# Altium schematic symbol library kmilo17pet-TI_StepDown.SchLib: 565 symbols (part 1 of 33)
Pins are listed as number, name and electrical type; pins without a type are passive.

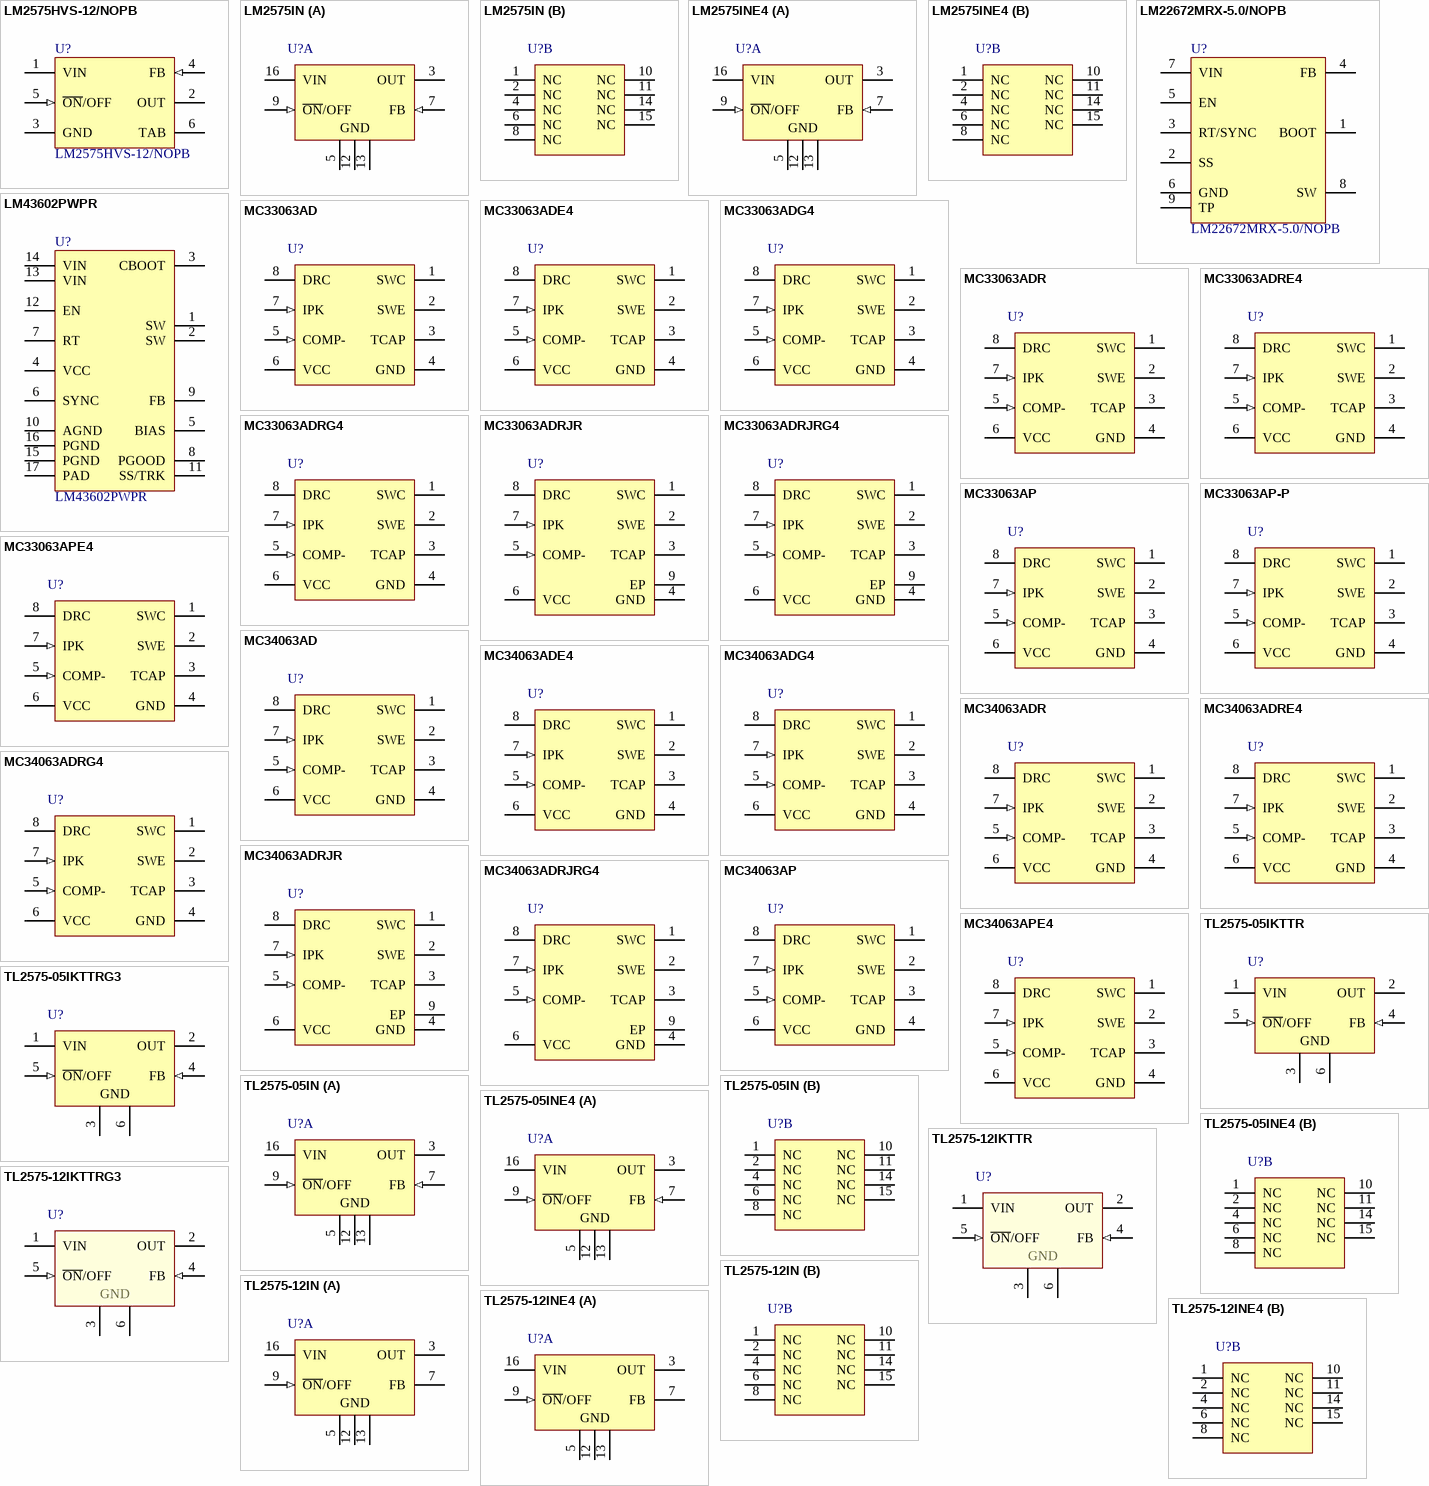
[diagram p0: symbols LM2575HVS-12/NOPB to TL2575-12INE4]

## LM2575HVS-12/NOPB
designator U?
TEXAS INSTRUMENTS         LM2575HVS-12/NOPB             Buck (Step Down) Switching Regulator, Fixed, 4V-60V In, 12V And 1A Out, TO-263-5; Manufacturer: TI National Semiconductor; Number of Outputs: 1; Switching Frequency: 58kHz; Quiescent Current: 10mA; Max Input Voltage: 60V; Efficiency: 88%; Min Input Voltage: 4V; Max Output Voltage: 57V; Min Output Voltage: 1.23V; Supplier 1: Digi-Key; Manufacturer Part Number: LM2575HVS-12/NOPB; Stock 1: 740; Pricing 1: 1=5.72, 10=5.141, 100=4.212, 500=3.5856, 1000=3.024 (USD); Mount: Surface Mount; Case/Package: TO-263; Number of Pins: 5; Weight: 0.25lb; Contact Plating: Tin; Min Operating Temperature: -40°C; Max Operating Temperature: 125°C; Output Voltage: 12V; Output Current: 1A; Packaging: Rail/Tube; Max Output Current: 1A; Package Quantity: 45; Nominal Output Voltage: 12V; Operating Supply Voltage: 60V; Length: 10.67mm; Height: 4.83mm; Width: 9.65mm; Radiation Hardening: No; REACH SVHC: No SVHC; Lead Free: Contains Lead; ComponentLink1URL: https://datasheet.ciiva.com/22669/1803433-22669424.pdf; ComponentLink1Description: https://datasheet.ciiva.com/22669/1803433-22669424.pdf; ComponentLink2URL: https://datasheet.ciiva.com/26098/lm2575-n-26098134.pdf; ComponentLink2Description: https://datasheet.ciiva.com/26098/lm2575-n-26098134.pdf; ComponentLink3URL: https://datasheet.ciiva.com/3219/lm2575-n-3219898.pdf; ComponentLink3Description: https://datasheet.ciiva.com/3219/lm2575-n-3219898.pdf; ComponentLink4URL: https://datasheet.ciiva.com/15112/getdatasheetpartid-82367-15112781.pdf; ComponentLink4Description: https://datasheet.ciiva.com/15112/getdatasheetpartid-82367-15112781.pdf; ComponentLink5URL: https://datasheet.ciiva.com/41457/001013707-da-01-en-ic-reg-bu-lm2575hvs-12-nopb-to-263-5-tid-41457558.pdf; ComponentLink5Description: https://datasheet.ciiva.com/41457/001013707-da-01-en-ic-reg-bu-lm2575hvs-12-nopb-to-263-5-tid-41457558.pdf; Value: LM2575HVS-12/NOPB; Supplier Part Number 1: LM2575HVS-12/NOPB-ND
footprint DPAK170P1435X442-6N (D2-PAK, 6-Pads, Body 7.42x8.66mm (max), IPC Medium Density)
pins: 1 VIN (power), 2 OUT (power), 3 GND (power), 4 FB (in), 5 ~{ON}/OFF (in), 6 TAB (power)

## LM2575IN
designator U?
Buck Adjustable Regulator with 4.75 to 40 V Input and 1.23 to 37 V Output, -40 to 125 degC, 16-Pin PDIP (N), Pb-Free (RoHS); Manufacturer: Texas Instruments; PartNumber: LM2575IN; Duty Cycle(Max)(%): 98; Iout(Max)(A): 1; Iq(Typ)(mA): 5; Rating: Catalog; SubFamily: Step-Down Regulator; Switch Current Limit(Typ)(A): 3; Vin(Max)(V): 40; Vin(Min)(V): 4.75; Vout(Max)(V): 37; Vout(Min)(V): 1.23; DatasheetVersion: SLVS569E; PackageVersion: revE, Dec-2002; PackageReference: N16; PackageDescription: 16-Pin Plastic Dual-In-Line Package, Row Spacing 7.62 mm, Pitch 2.54 mm; Supplier 1: Digi-Key; Supplier Part Number 1: 296-20850-5-ND; Eco-Plan: Pb-Free (RoHS); Regulated Outputs(#): 1; Topology: Buck; Mounting Technology: Through Hole; Code_JEDEC: MS-001*; ComponentLink1Description: Datasheet; ComponentLink1URL: http://www.ti.com/general/docs/lit/getliterature.tsp?genericPartNumber=LM2575&fileType=pdf; ComponentLink2Description: Package Specification; ComponentLink2URL: http://www.ti.com/litv/pdf/mpdi002c; ComponentLink3Description: URL Link1; ComponentLink3URL: Samples URL:http://www.ti.com/product/lm2575#samples
footprint N16 (DIP, 16-Leads, Row Spacing 7.62mm, Pitch 2.54mm, Body 19.3x6.4mm)
part A pins: 3 OUT (power), 5 GND (power), 7 FB (in), 9 ~{ON}/OFF (in), 12 GND (power), 13 GND (power), 16 VIN (power)
part B pins: 1 NC, 2 NC, 4 NC, 6 NC, 8 NC, 10 NC, 11 NC, 14 NC, 15 NC

## LM2575INE4
designator U?
Buck Adjustable Regulator with 4.75 to 40 V Input and 1.23 to 37 V Output, -40 to 125 degC, 16-Pin PDIP (N), Pb-Free (RoHS); Manufacturer: Texas Instruments; PartNumber: LM2575INE4; Duty Cycle(Max)(%): 98; Iout(Max)(A): 1; Iq(Typ)(mA): 5; Rating: Catalog; SubFamily: Step-Down Regulator; Switch Current Limit(Typ)(A): 3; Vin(Max)(V): 40; Vin(Min)(V): 4.75; Vout(Max)(V): 37; Vout(Min)(V): 1.23; DatasheetVersion: SLVS569E; PackageVersion: revE, Dec-2002; PackageReference: N16; PackageDescription: 16-Pin Plastic Dual-In-Line Package, Row Spacing 7.62 mm, Pitch 2.54 mm; Supplier 1: Digi-Key; Supplier Part Number 1: LM2575INE4-ND; Eco-Plan: Pb-Free (RoHS); Regulated Outputs(#): 1; Topology: Buck; Mounting Technology: Through Hole; Code_JEDEC: MS-001*; ComponentLink1Description: Datasheet; ComponentLink1URL: http://www.ti.com/general/docs/lit/getliterature.tsp?genericPartNumber=LM2575&fileType=pdf; ComponentLink2Description: Package Specification; ComponentLink2URL: http://www.ti.com/litv/pdf/mpdi002c; ComponentLink3Description: URL Link1; ComponentLink3URL: Samples URL:http://www.ti.com/product/tps54611#samples
footprint N16 (DIP, 16-Leads, Row Spacing 7.62mm, Pitch 2.54mm, Body 19.3x6.4mm)
part A pins: 3 OUT (power), 5 GND (power), 7 FB (in), 9 ~{ON}/OFF (in), 12 GND (power), 13 GND (power), 16 VIN (power)
part B pins: 1 NC, 2 NC, 4 NC, 6 NC, 8 NC, 10 NC, 11 NC, 14 NC, 15 NC

## LM22672MRX-5.0/NOPB
designator U?
IC REG BUCK 5V 1A 8PSOP; Manufacturer 1: TI National Semiconductor; Output Type: Fixed; Output Configuration: Positive; Min Supply Voltage: 4.5V; Number of Outputs: 1; Efficiency: 90%; Max Input Voltage: 42V; Switching Frequency: 500kHz; Synchronous Rectifier: No; Quiescent Current: 3.4mA; Supplier 1: Digi-Key; Manufacturer Part Number 1: LM22672MRX-5.0/NOPB; RoHS: Yes; Category: Voltage Regulators - Switching; Stock 1: 19056; Pricing 1: 1=3,73000, 10=3,35100, 25=3,16800, 100=2,60480, 250=2,33728, 500=2,25280, 1000=1,87264 (USD); Mount: Surface Mount; Number of Pins: 8; Contact Plating: Tin,Matte; Min Operating Temperature: -40°C; Max Operating Temperature: 125°C; Output Voltage: 5V; Output Current: 1A; Packaging: Tape and Reel; Min Input Voltage: 4.5V; Max Output Current: 1A; Package Quantity: 2500; Min Output Voltage: 5V; Operating Supply Voltage: 42V; Radiation Hardening: No; Lead Free: Lead Free; ComponentLink1URL: https://datasheet.ciiva.com/6604/lm22672-6604383.pdf?src-supplier=Digi-Key; ComponentLink1Description: https://datasheet.ciiva.com/6604/lm22672-6604383.pdf?src-supplier=Digi-Key; Value: LM22672MRX-5.0/NOPB; Supplier Part Number 1: 296-38090-1-ND
footprint SOIC8-PWR (SOIC, 8-Leads, Body 4,90x3,90mm, Pitch 1,27mm, Thermal Pad 3,10x2,40mm, IPC Medium Density)
pins: 1 BOOT, 2 SS, 3 RT/SYNC, 4 FB, 5 EN, 6 GND, 7 VIN, 8 SW, 9 TP

## LM43602PWPR
designator U?
Conv DC-DC 3.5V to 36V Synchronous Step Down Single-Out 1V to 28V 2A 16-Pin HTSSOP EP T/R; Manufacturer 1: Texas Instruments; Number of Outputs: 1; Switching Frequency: 2.2MHz; Synchronous Rectifier: Yes; Quiescent Current: 27uA; Output Type: Adjustable; Output Configuration: Positive; Supplier 1: Digi-Key; Manufacturer Part Number 1: LM43602PWPR; RoHS: Yes; Category: Power Supply Modules; Stock 1: 4541; Pricing 1: 1=4,20000, 10=3,77500, 100=2,93450, 500=2,53792, 1000=2,10965 (USD); Mount: Surface Mount; Number of Pins: 16; Weight: 0.002212oz; Min Operating Temperature: -40°C; Max Operating Temperature: 125°C; Packaging: Tape and Reel; Output Voltage: 28V; Max Output Current: 2A; Min Input Voltage: 3.5V; Max Input Voltage: 36V; Min Output Voltage: 1V; Max Output Voltage: 28V; Output Current: 2A; Package Quantity: 2000; Min Supply Voltage: 3.5V; Operating Supply Voltage: 36V; Radiation Hardening: No; Lead Free: Lead Free; ComponentLink1URL: http://www.ti.com/lit/gpn/lm43602?src-supplier=Mouser; ComponentLink1Description: http://www.ti.com/lit/gpn/lm43602?src-supplier=Mouser; ComponentLink2URL: http://www.ti.com/general/docs/lit/getliterature.tsp?genericPartNumber=LM43602&&fileType=pdf&src-supplier=Avnet; ComponentLink2Description: http://www.ti.com/general/docs/lit/getliterature.tsp?genericPartNumber=LM43602&&fileType=pdf&src-supplier=Avnet; Value: LM43602PWPR; Supplier Part Number 1: 296-46303-1-ND
footprint TSSOP16-1.2 (TSOP, 16-Leads, Body 5,00x4,40mm, Pitch 0,65mm, Thermal Pad 3,29x2,44mm, IPC High Density)
pins: 1 SW, 2 SW, 3 CBOOT, 4 VCC, 5 BIAS, 6 SYNC, 7 RT, 8 PGOOD, 9 FB, 10 AGND, 11 SS/TRK, 12 EN, 13 VIN, 14 VIN, 15 PGND, 16 PGND, 17 PAD

## MC33063AD
designator U?
Inverting Buck-Boost Regulator with 3 to 40 V Input and 1.25 to 40 V Output, -40 to 85 degC, 8-Pin SOIC (D), Green (RoHS & no Sb/Br); Manufacturer: Texas Instruments; PartNumber: MC33063AD; Iout(Max)(A): 0.75; Rating: Catalog; Regulated Outputs(#): 1; SubFamily: Step-Down Regulator; Switch Current Limit(Typ)(A): 1.5; Vin(Max)(V): 40; Vin(Min)(V): 3; Vout(Min)(V): 1.25; DatasheetVersion: SLLS636M; PackageVersion: revM, Jun-2011; PackageReference: D8; PackageDescription: 8-Pin Plastic Small Outline Integrated Circuit, 4.9 x 3.9 mm, Pitch 1.27 mm Pitch; Supplier 1: Digi-Key; Supplier Part Number 1: 296-26168-5-ND; Eco-Plan: Green (RoHS & no Sb/Br); Topology: Inverting Buck-Boost; Vout(Max)(V): 40; Mounting Technology: Surface Mount; Code_JEDEC: MS-012AA; ComponentLink1Description: Datasheet; ComponentLink1URL: http://www.ti.com/general/docs/lit/getliterature.tsp?genericPartNumber=MC33063A&fileType=pdf; ComponentLink2Description: Package Specification; ComponentLink2URL: http://www.ti.com/litv/pdf/msoi002j; ComponentLink3Description: URL Link1; ComponentLink3URL: Samples URL:http://www.ti.com/product/mc33063a#samples
footprint D8_N (SOIC, 8-Leads, Body 4.9x3.9mm, Pitch 1.27mm, IPC Medium Density)
footprint D8_L (SOIC, 8-Leads, Body 4.9x3.9mm, Pitch 1.27mm, IPC High Density)
footprint D8_M (SOIC, 8-Leads, Body 4.9x3.9mm, Pitch 1.27mm, IPC Low Density)
pins: 1 SWC (oc), 2 SWE (oe), 3 TCAP, 4 GND (power), 5 COMP- (in), 6 VCC (power), 7 IPK (in), 8 DRC (oc)

## MC33063ADE4
designator U?
Inverting Buck-Boost Regulator with 3 to 40 V Input and 1.25 to 40 V Output, -40 to 85 degC, 8-Pin SOIC (D), Green (RoHS & no Sb/Br); Manufacturer: Texas Instruments; PartNumber: MC33063ADE4; Iout(Max)(A): 0.75; Rating: Catalog; Regulated Outputs(#): 1; SubFamily: Step-Down Regulator; Switch Current Limit(Typ)(A): 1.5; Vin(Max)(V): 40; Vin(Min)(V): 3; Vout(Min)(V): 1.25; DatasheetVersion: SLLS636M; PackageVersion: revM, Jun-2011; PackageReference: D8; PackageDescription: 8-Pin Plastic Small Outline Integrated Circuit, 4.9 x 3.9 mm, Pitch 1.27 mm Pitch; Supplier 1: Digi-Key; Supplier Part Number 1: MC33063ADE4-ND; Eco-Plan: Green (RoHS & no Sb/Br); Topology: Inverting Buck-Boost; Vout(Max)(V): 40; Mounting Technology: Surface Mount; Code_JEDEC: MS-012AA; ComponentLink1Description: Datasheet; ComponentLink1URL: http://www.ti.com/general/docs/lit/getliterature.tsp?genericPartNumber=MC33063A&fileType=pdf; ComponentLink2Description: Package Specification; ComponentLink2URL: http://www.ti.com/litv/pdf/msoi002j; ComponentLink3Description: URL Link1; ComponentLink3URL: Samples URL:http://www.ti.com/product/mc33063a#samples
footprint D8_N (SOIC, 8-Leads, Body 4.9x3.9mm, Pitch 1.27mm, IPC Medium Density)
footprint D8_L (SOIC, 8-Leads, Body 4.9x3.9mm, Pitch 1.27mm, IPC High Density)
footprint D8_M (SOIC, 8-Leads, Body 4.9x3.9mm, Pitch 1.27mm, IPC Low Density)
pins: 1 SWC (oc), 2 SWE (oe), 3 TCAP, 4 GND (power), 5 COMP- (in), 6 VCC (power), 7 IPK (in), 8 DRC (oc)

## MC33063ADG4
designator U?
Inverting Buck-Boost Regulator with 3 to 40 V Input and 1.25 to 40 V Output, -40 to 85 degC, 8-Pin SOIC (D), Green (RoHS & no Sb/Br); Manufacturer: Texas Instruments; PartNumber: MC33063ADG4; Iout(Max)(A): 0.75; Rating: Catalog; Regulated Outputs(#): 1; SubFamily: Step-Down Regulator; Switch Current Limit(Typ)(A): 1.5; Vin(Max)(V): 40; Vin(Min)(V): 3; Vout(Min)(V): 1.25; DatasheetVersion: SLLS636M; PackageVersion: revM, Jun-2011; PackageReference: D8; PackageDescription: 8-Pin Plastic Small Outline Integrated Circuit, 4.9 x 3.9 mm, Pitch 1.27 mm Pitch; Supplier 1: Digi-Key; Supplier Part Number 1: MC33063ADG4-ND; Eco-Plan: Green (RoHS & no Sb/Br); Topology: Inverting Buck-Boost; Vout(Max)(V): 40; Mounting Technology: Surface Mount; Code_JEDEC: MS-012AA; ComponentLink1Description: Datasheet; ComponentLink1URL: http://www.ti.com/general/docs/lit/getliterature.tsp?genericPartNumber=MC33063A&fileType=pdf; ComponentLink2Description: Package Specification; ComponentLink2URL: http://www.ti.com/litv/pdf/msoi002j; ComponentLink3Description: URL Link1; ComponentLink3URL: Samples URL:http://www.ti.com/product/mc33063a#samples
footprint D8_N (SOIC, 8-Leads, Body 4.9x3.9mm, Pitch 1.27mm, IPC Medium Density)
footprint D8_L (SOIC, 8-Leads, Body 4.9x3.9mm, Pitch 1.27mm, IPC High Density)
footprint D8_M (SOIC, 8-Leads, Body 4.9x3.9mm, Pitch 1.27mm, IPC Low Density)
pins: 1 SWC (oc), 2 SWE (oe), 3 TCAP, 4 GND (power), 5 COMP- (in), 6 VCC (power), 7 IPK (in), 8 DRC (oc)

## MC33063ADR
designator U?
Inverting Buck-Boost Regulator with 3 to 40 V Input and 1.25 to 40 V Output, -40 to 85 degC, 8-Pin SOIC (D), Green (RoHS & no Sb/Br); Manufacturer: Texas Instruments; PartNumber: MC33063ADR; Iout(Max)(A): 0.75; Rating: Catalog; Regulated Outputs(#): 1; SubFamily: Step-Down Regulator; Switch Current Limit(Typ)(A): 1.5; Vin(Max)(V): 40; Vin(Min)(V): 3; Vout(Min)(V): 1.25; DatasheetVersion: SLLS636M; PackageVersion: revM, Jun-2011; PackageReference: D8; PackageDescription: 8-Pin Plastic Small Outline Integrated Circuit, 4.9 x 3.9 mm, Pitch 1.27 mm Pitch; Supplier 1: Digi-Key; Supplier Part Number 1: 296-17763-2-ND; Eco-Plan: Green (RoHS & no Sb/Br); Topology: Inverting Buck-Boost; Vout(Max)(V): 40; Mounting Technology: Surface Mount; Code_JEDEC: MS-012AA; ComponentLink1Description: Datasheet; ComponentLink1URL: http://www.ti.com/general/docs/lit/getliterature.tsp?genericPartNumber=MC33063A&fileType=pdf; ComponentLink2Description: Package Specification; ComponentLink2URL: http://www.ti.com/litv/pdf/msoi002j; ComponentLink3Description: URL Link1; ComponentLink3URL: Samples URL:http://www.ti.com/product/mc33063a#samples
footprint D8_N (SOIC, 8-Leads, Body 4.9x3.9mm, Pitch 1.27mm, IPC Medium Density)
footprint D8_L (SOIC, 8-Leads, Body 4.9x3.9mm, Pitch 1.27mm, IPC High Density)
footprint D8_M (SOIC, 8-Leads, Body 4.9x3.9mm, Pitch 1.27mm, IPC Low Density)
pins: 1 SWC (oc), 2 SWE (oe), 3 TCAP, 4 GND (power), 5 COMP- (in), 6 VCC (power), 7 IPK (in), 8 DRC (oc)

## MC33063ADRE4
designator U?
Inverting Buck-Boost Regulator with 3 to 40 V Input and 1.25 to 40 V Output, -40 to 85 degC, 8-Pin SOIC (D), Green (RoHS & no Sb/Br); Manufacturer: Texas Instruments; PartNumber: MC33063ADRE4; Iout(Max)(A): 0.75; Rating: Catalog; Regulated Outputs(#): 1; SubFamily: Step-Down Regulator; Switch Current Limit(Typ)(A): 1.5; Vin(Max)(V): 40; Vin(Min)(V): 3; Vout(Min)(V): 1.25; DatasheetVersion: SLLS636M; PackageVersion: revM, Jun-2011; PackageReference: D8; PackageDescription: 8-Pin Plastic Small Outline Integrated Circuit, 4.9 x 3.9 mm, Pitch 1.27 mm Pitch; Supplier 1: Digi-Key; Supplier Part Number 1: MC33063ADRE4-ND; Eco-Plan: Green (RoHS & no Sb/Br); Topology: Inverting Buck-Boost; Vout(Max)(V): 40; Mounting Technology: Surface Mount; Code_JEDEC: MS-012AA; ComponentLink1Description: Datasheet; ComponentLink1URL: http://www.ti.com/general/docs/lit/getliterature.tsp?genericPartNumber=MC33063A&fileType=pdf; ComponentLink2Description: Package Specification; ComponentLink2URL: http://www.ti.com/litv/pdf/msoi002j; ComponentLink3Description: URL Link1; ComponentLink3URL: Samples URL:http://www.ti.com/product/mc33063a#samples
footprint D8_N (SOIC, 8-Leads, Body 4.9x3.9mm, Pitch 1.27mm, IPC Medium Density)
footprint D8_L (SOIC, 8-Leads, Body 4.9x3.9mm, Pitch 1.27mm, IPC High Density)
footprint D8_M (SOIC, 8-Leads, Body 4.9x3.9mm, Pitch 1.27mm, IPC Low Density)
pins: 1 SWC (oc), 2 SWE (oe), 3 TCAP, 4 GND (power), 5 COMP- (in), 6 VCC (power), 7 IPK (in), 8 DRC (oc)

## MC33063ADRG4
designator U?
Inverting Buck-Boost Regulator with 3 to 40 V Input and 1.25 to 40 V Output, -40 to 85 degC, 8-Pin SOIC (D), Green (RoHS & no Sb/Br); Manufacturer: Texas Instruments; PartNumber: MC33063ADRG4; Iout(Max)(A): 0.75; Rating: Catalog; Regulated Outputs(#): 1; SubFamily: Step-Down Regulator; Switch Current Limit(Typ)(A): 1.5; Vin(Max)(V): 40; Vin(Min)(V): 3; Vout(Min)(V): 1.25; DatasheetVersion: SLLS636M; PackageVersion: revM, Jun-2011; PackageReference: D8; PackageDescription: 8-Pin Plastic Small Outline Integrated Circuit, 4.9 x 3.9 mm, Pitch 1.27 mm Pitch; Supplier 1: Digi-Key; Supplier Part Number 1: MC33063ADRG4-ND; Eco-Plan: Green (RoHS & no Sb/Br); Topology: Inverting Buck-Boost; Vout(Max)(V): 40; Mounting Technology: Surface Mount; Code_JEDEC: MS-012AA; ComponentLink1Description: Datasheet; ComponentLink1URL: http://www.ti.com/general/docs/lit/getliterature.tsp?genericPartNumber=MC33063A&fileType=pdf; ComponentLink2Description: Package Specification; ComponentLink2URL: http://www.ti.com/litv/pdf/msoi002j; ComponentLink3Description: URL Link1; ComponentLink3URL: Samples URL:http://www.ti.com/product/mc33063a#samples
footprint D8_N (SOIC, 8-Leads, Body 4.9x3.9mm, Pitch 1.27mm, IPC Medium Density)
footprint D8_L (SOIC, 8-Leads, Body 4.9x3.9mm, Pitch 1.27mm, IPC High Density)
footprint D8_M (SOIC, 8-Leads, Body 4.9x3.9mm, Pitch 1.27mm, IPC Low Density)
pins: 1 SWC (oc), 2 SWE (oe), 3 TCAP, 4 GND (power), 5 COMP- (in), 6 VCC (power), 7 IPK (in), 8 DRC (oc)

## MC33063ADRJR
designator U?
Inverting Buck-Boost Regulator with 3 to 40 V Input and 1.25 to 40 V Output, -40 to 85 degC, 8-Pin SON (DRJ), Green (RoHS & no Sb/Br); Manufacturer: Texas Instruments; PartNumber: MC33063ADRJR; Iout(Max)(A): 0.75; Rating: Catalog; Regulated Outputs(#): 1; SubFamily: Step-Down Regulator; Switch Current Limit(Typ)(A): 1.5; Vin(Max)(V): 40; Vin(Min)(V): 3; Vout(Min)(V): 1.25; DatasheetVersion: SLLS636M; PackageVersion: revC, Dec-2010; PackageReference: DRJ8-3000X2200TP; PackageDescription: 8-Pin Plastic Small Outline No-Lead, 4 x 4 x 0.8 mm Body, 0.8 mm Pitch, Exposed Pad; Supplier 1: Digi-Key; Supplier Part Number 1: 296-21744-1-ND; Eco-Plan: Green (RoHS & no Sb/Br); Topology: Inverting Buck-Boost; Vout(Max)(V): 40; Mounting Technology: Surface Mount; ComponentLink1Description: Datasheet; ComponentLink1URL: http://www.ti.com/general/docs/lit/getliterature.tsp?genericPartNumber=MC33063A&fileType=pdf; ComponentLink2Description: Package Specification; ComponentLink2URL: http://www.ti.com/litv/pdf/mpds153b; ComponentLink3Description: URL Link1; ComponentLink3URL: Samples URL:http://www.ti.com/product/mc33063a#samples
footprint DRJ8-3000X2200TP (SON, 8-Leads, Body 4x4mm, Pitch 0.8mm, Thermal Pad 3x2.2mm, TI Recommended)
pins: 1 SWC (oc), 2 SWE (oe), 3 TCAP, 4 GND (power), 5 COMP- (in), 6 VCC (power), 7 IPK (in), 8 DRC (oc), 9 EP (power)

## MC33063ADRJRG4
designator U?
Inverting Buck-Boost Regulator with 3 to 40 V Input and 1.25 to 40 V Output, -40 to 85 degC, 8-Pin SON (DRJ), Green (RoHS & no Sb/Br); Manufacturer: Texas Instruments; PartNumber: MC33063ADRJRG4; Iout(Max)(A): 0.75; Rating: Catalog; Regulated Outputs(#): 1; SubFamily: Step-Down Regulator; Switch Current Limit(Typ)(A): 1.5; Vin(Max)(V): 40; Vin(Min)(V): 3; Vout(Min)(V): 1.25; DatasheetVersion: SLLS636M; PackageVersion: revC, Dec-2010; PackageReference: DRJ8-3000X2200TP; PackageDescription: 8-Pin Plastic Small Outline No-Lead, 4 x 4 x 0.8 mm Body, 0.8 mm Pitch, Exposed Pad; Supplier 1: Digi-Key; Supplier Part Number 1: MC33063ADRJRG4-ND; Eco-Plan: Green (RoHS & no Sb/Br); Topology: Inverting Buck-Boost; Vout(Max)(V): 40; Mounting Technology: Surface Mount; ComponentLink1Description: Datasheet; ComponentLink1URL: http://www.ti.com/general/docs/lit/getliterature.tsp?genericPartNumber=MC33063A&fileType=pdf; ComponentLink2Description: Package Specification; ComponentLink2URL: http://www.ti.com/litv/pdf/mpds153b; ComponentLink3Description: URL Link1; ComponentLink3URL: Samples URL:http://www.ti.com/product/mc33063a#samples
footprint DRJ8-3000X2200TP (SON, 8-Leads, Body 4x4mm, Pitch 0.8mm, Thermal Pad 3x2.2mm, TI Recommended)
pins: 1 SWC (oc), 2 SWE (oe), 3 TCAP, 4 GND (power), 5 COMP- (in), 6 VCC (power), 7 IPK (in), 8 DRC (oc), 9 EP (power)

## MC33063AP
designator U?
Inverting Buck-Boost Regulator with 3 to 40 V Input and 1.25 to 40 V Output, -40 to 85 degC, 8-Pin PDIP (P), Pb-Free (RoHS); Manufacturer: Texas Instruments; PartNumber: MC33063AP; Iout(Max)(A): 0.75; Rating: Catalog; Regulated Outputs(#): 1; SubFamily: Step-Down Regulator; Switch Current Limit(Typ)(A): 1.5; Vin(Max)(V): 40; Vin(Min)(V): 3; Vout(Min)(V): 1.25; DatasheetVersion: SLLS636M; PackageVersion: revE, Apr-2010; PackageReference: P8; PackageDescription: 8-Pin Plastic Dual-In-Line Package, Row Spacing 7.62 mm, Pitch 2.54 mm; Supplier 1: Digi-Key; Supplier Part Number 1: 296-17764-5-ND; Eco-Plan: Pb-Free (RoHS); Topology: Inverting Buck-Boost; Vout(Max)(V): 40; Mounting Technology: Through Hole; Code_JEDEC: MS-001-BA; ComponentLink1Description: Datasheet; ComponentLink1URL: http://www.ti.com/general/docs/lit/getliterature.tsp?genericPartNumber=MC33063A&fileType=pdf; ComponentLink2Description: Package Specification; ComponentLink2URL: http://www.ti.com/lit/ml/mpdi001b/mpdi001b.pdf; ComponentLink3Description: URL Link1; ComponentLink3URL: Samples URL:http://www.ti.com/product/mc33063a#samples
footprint P8 (DIP, 8-Leads, Row Spacing 7.62mm, Pitch 2.54mm, Body 9.6x6.4mm)
pins: 1 SWC (oc), 2 SWE (oe), 3 TCAP, 4 GND (power), 5 COMP- (in), 6 VCC (power), 7 IPK (in), 8 DRC (oc)

## MC33063AP-P
designator U?
Inverting Buck-Boost Regulator with 3 to 40 V Input and 1.25 to 40 V Output, -40 to 85 degC, 8-Pin PDIP (P), Pb-Free (RoHS); Manufacturer: Texas Instruments; PartNumber: MC33063AP-P; Iout(Max)(A): 0.75; Rating: Catalog; Regulated Outputs(#): 1; SubFamily: Step-Down Regulator; Switch Current Limit(Typ)(A): 1.5; Vin(Max)(V): 40; Vin(Min)(V): 3; Vout(Min)(V): 1.25; DatasheetVersion: SLLS636M; PackageVersion: revE, Apr-2010; PackageReference: P8; PackageDescription: 8-Pin Plastic Dual-In-Line Package, Row Spacing 7.62 mm, Pitch 2.54 mm; Supplier 1: Mouser; Supplier Part Number 1: N/A; Eco-Plan: Pb-Free (RoHS); Topology: Inverting Buck-Boost; Vout(Max)(V): 40; Mounting Technology: Through Hole; Code_JEDEC: MS-001-BA; ComponentLink1Description: Datasheet; ComponentLink1URL: http://www.ti.com/general/docs/lit/getliterature.tsp?genericPartNumber=MC33063A&fileType=pdf; ComponentLink2Description: Package Specification; ComponentLink2URL: http://www.ti.com/lit/ml/mpdi001b/mpdi001b.pdf; ComponentLink3Description: URL Link1; ComponentLink3URL: Samples URL:http://www.ti.com/product/mc33063a#samples
footprint P8 (DIP, 8-Leads, Row Spacing 7.62mm, Pitch 2.54mm, Body 9.6x6.4mm)
pins: 1 SWC (oc), 2 SWE (oe), 3 TCAP, 4 GND (power), 5 COMP- (in), 6 VCC (power), 7 IPK (in), 8 DRC (oc)

## MC33063APE4
designator U?
Inverting Buck-Boost Regulator with 3 to 40 V Input and 1.25 to 40 V Output, -40 to 85 degC, 8-Pin PDIP (P), Pb-Free (RoHS); Manufacturer: Texas Instruments; PartNumber: MC33063APE4; Iout(Max)(A): 0.75; Rating: Catalog; Regulated Outputs(#): 1; SubFamily: Step-Down Regulator; Switch Current Limit(Typ)(A): 1.5; Vin(Max)(V): 40; Vin(Min)(V): 3; Vout(Min)(V): 1.25; DatasheetVersion: SLLS636M; PackageVersion: revE, Apr-2010; PackageReference: P8; PackageDescription: 8-Pin Plastic Dual-In-Line Package, Row Spacing 7.62 mm, Pitch 2.54 mm; Supplier 1: Digi-Key; Supplier Part Number 1: MC33063APE4-ND; Eco-Plan: Pb-Free (RoHS); Topology: Inverting Buck-Boost; Vout(Max)(V): 40; Mounting Technology: Through Hole; Code_JEDEC: MS-001-BA; ComponentLink1Description: Datasheet; ComponentLink1URL: http://www.ti.com/general/docs/lit/getliterature.tsp?genericPartNumber=MC33063A&fileType=pdf; ComponentLink2Description: Package Specification; ComponentLink2URL: http://www.ti.com/lit/ml/mpdi001b/mpdi001b.pdf; ComponentLink3Description: URL Link1; ComponentLink3URL: Samples URL:http://www.ti.com/product/tps54611#samples
footprint P8 (DIP, 8-Leads, Row Spacing 7.62mm, Pitch 2.54mm, Body 9.6x6.4mm)
pins: 1 SWC (oc), 2 SWE (oe), 3 TCAP, 4 GND (power), 5 COMP- (in), 6 VCC (power), 7 IPK (in), 8 DRC (oc)

## MC34063AD
designator U?
Buck Inverting Buck-Boost Regulator with 3 to 40 V Input and 1.55 to 40 V Output, 0 to 70 degC, 8-Pin SOIC (D), Green (RoHS & no Sb/Br); Manufacturer: Texas Instruments; PartNumber: MC34063AD; Duty Cycle(Max)(%): 90; Iout(Max)(A): 0.75; Iq(Typ)(mA): 4; Rating: Catalog; Regulated Outputs(#): 1; SubFamily: Inverting Regulator; Switch Current Limit(Typ)(A): 1.5; Topology: Buck, Inverting Buck-Boost; Vin(Max)(V): 40; Vin(Min)(V): 3; Vout(Min)(V): 1.55; DatasheetVersion: SLLS636M; PackageVersion: revM, Jun-2011; PackageReference: D8; PackageDescription: 8-Pin Plastic Small Outline Integrated Circuit, 4.9 x 3.9 mm, Pitch 1.27 mm Pitch; Supplier 1: Digi-Key; Supplier Part Number 1: 296-26169-5-ND; Eco-Plan: Green (RoHS & no Sb/Br); Vout(Max)(V): 40; Mounting Technology: Surface Mount; Code_JEDEC: MS-012AA; ComponentLink1Description: Datasheet; ComponentLink1URL: http://www.ti.com/general/docs/lit/getliterature.tsp?genericPartNumber=MC34063A&fileType=pdf; ComponentLink2Description: Package Specification; ComponentLink2URL: http://www.ti.com/litv/pdf/msoi002j; ComponentLink3Description: URL Link1; ComponentLink3URL: Samples URL:http://www.ti.com/product/mc34063a#samples
footprint D8_N (SOIC, 8-Leads, Body 4.9x3.9mm, Pitch 1.27mm, IPC Medium Density)
footprint D8_L (SOIC, 8-Leads, Body 4.9x3.9mm, Pitch 1.27mm, IPC High Density)
footprint D8_M (SOIC, 8-Leads, Body 4.9x3.9mm, Pitch 1.27mm, IPC Low Density)
pins: 1 SWC (oc), 2 SWE (oe), 3 TCAP, 4 GND (power), 5 COMP- (in), 6 VCC (power), 7 IPK (in), 8 DRC (oc)

## MC34063ADE4
designator U?
Buck Inverting Buck-Boost Regulator with 3 to 40 V Input and 1.55 to 40 V Output, 0 to 70 degC, 8-Pin SOIC (D), Green (RoHS & no Sb/Br); Manufacturer: Texas Instruments; PartNumber: MC34063ADE4; Duty Cycle(Max)(%): 90; Iout(Max)(A): 0.75; Iq(Typ)(mA): 4; Rating: Catalog; Regulated Outputs(#): 1; SubFamily: Inverting Regulator; Switch Current Limit(Typ)(A): 1.5; Topology: Buck, Inverting Buck-Boost; Vin(Max)(V): 40; Vin(Min)(V): 3; Vout(Min)(V): 1.55; DatasheetVersion: SLLS636M; PackageVersion: revM, Jun-2011; PackageReference: D8; PackageDescription: 8-Pin Plastic Small Outline Integrated Circuit, 4.9 x 3.9 mm, Pitch 1.27 mm Pitch; Supplier 1: Digi-Key; Supplier Part Number 1: MC34063ADE4-ND; Eco-Plan: Green (RoHS & no Sb/Br); Vout(Max)(V): 40; Mounting Technology: Surface Mount; Code_JEDEC: MS-012AA; ComponentLink1Description: Datasheet; ComponentLink1URL: http://www.ti.com/general/docs/lit/getliterature.tsp?genericPartNumber=MC34063A&fileType=pdf; ComponentLink2Description: Package Specification; ComponentLink2URL: http://www.ti.com/litv/pdf/msoi002j; ComponentLink3Description: URL Link1; ComponentLink3URL: Samples URL:http://www.ti.com/product/mc34063a#samples
footprint D8_N (SOIC, 8-Leads, Body 4.9x3.9mm, Pitch 1.27mm, IPC Medium Density)
footprint D8_L (SOIC, 8-Leads, Body 4.9x3.9mm, Pitch 1.27mm, IPC High Density)
footprint D8_M (SOIC, 8-Leads, Body 4.9x3.9mm, Pitch 1.27mm, IPC Low Density)
pins: 1 SWC (oc), 2 SWE (oe), 3 TCAP, 4 GND (power), 5 COMP- (in), 6 VCC (power), 7 IPK (in), 8 DRC (oc)

## MC34063ADG4
designator U?
Buck Inverting Buck-Boost Regulator with 3 to 40 V Input and 1.55 to 40 V Output, 0 to 70 degC, 8-Pin SOIC (D), Green (RoHS & no Sb/Br); Manufacturer: Texas Instruments; PartNumber: MC34063ADG4; Duty Cycle(Max)(%): 90; Iout(Max)(A): 0.75; Iq(Typ)(mA): 4; Rating: Catalog; Regulated Outputs(#): 1; SubFamily: Inverting Regulator; Switch Current Limit(Typ)(A): 1.5; Topology: Buck, Inverting Buck-Boost; Vin(Max)(V): 40; Vin(Min)(V): 3; Vout(Min)(V): 1.55; DatasheetVersion: SLLS636M; PackageVersion: revM, Jun-2011; PackageReference: D8; PackageDescription: 8-Pin Plastic Small Outline Integrated Circuit, 4.9 x 3.9 mm, Pitch 1.27 mm Pitch; Supplier 1: Digi-Key; Supplier Part Number 1: MC34063ADG4-ND; Eco-Plan: Green (RoHS & no Sb/Br); Vout(Max)(V): 40; Mounting Technology: Surface Mount; Code_JEDEC: MS-012AA; ComponentLink1Description: Datasheet; ComponentLink1URL: http://www.ti.com/general/docs/lit/getliterature.tsp?genericPartNumber=MC34063A&fileType=pdf; ComponentLink2Description: Package Specification; ComponentLink2URL: http://www.ti.com/litv/pdf/msoi002j; ComponentLink3Description: URL Link1; ComponentLink3URL: Samples URL:http://www.ti.com/product/mc34063a#samples
footprint D8_N (SOIC, 8-Leads, Body 4.9x3.9mm, Pitch 1.27mm, IPC Medium Density)
footprint D8_L (SOIC, 8-Leads, Body 4.9x3.9mm, Pitch 1.27mm, IPC High Density)
footprint D8_M (SOIC, 8-Leads, Body 4.9x3.9mm, Pitch 1.27mm, IPC Low Density)
pins: 1 SWC (oc), 2 SWE (oe), 3 TCAP, 4 GND (power), 5 COMP- (in), 6 VCC (power), 7 IPK (in), 8 DRC (oc)

## MC34063ADR
designator U?
Buck Inverting Buck-Boost Regulator with 3 to 40 V Input and 1.55 to 40 V Output, 0 to 70 degC, 8-Pin SOIC (D), Green (RoHS & no Sb/Br); Manufacturer: Texas Instruments; PartNumber: MC34063ADR; Duty Cycle(Max)(%): 90; Iout(Max)(A): 0.75; Iq(Typ)(mA): 4; Rating: Catalog; Regulated Outputs(#): 1; SubFamily: Step-Down Regulator; Switch Current Limit(Typ)(A): 1.5; Topology: Buck, Inverting Buck-Boost; Vin(Max)(V): 40; Vin(Min)(V): 3; Vout(Min)(V): 1.55; DatasheetVersion: SLLS636M; PackageVersion: revM, Jun-2011; PackageReference: D8; PackageDescription: 8-Pin Plastic Small Outline Integrated Circuit, 4.9 x 3.9 mm, Pitch 1.27 mm Pitch; Supplier 1: Digi-Key; Supplier Part Number 1: 296-17765-2-ND; Eco-Plan: Green (RoHS & no Sb/Br); Vout(Max)(V): 40; Mounting Technology: Surface Mount; Code_JEDEC: MS-012AA; ComponentLink1Description: Datasheet; ComponentLink1URL: http://www.ti.com/general/docs/lit/getliterature.tsp?genericPartNumber=MC34063A&fileType=pdf; ComponentLink2Description: Package Specification; ComponentLink2URL: http://www.ti.com/litv/pdf/msoi002j; ComponentLink3Description: URL Link1; ComponentLink3URL: Samples URL:http://www.ti.com/product/mc34063a#samples
footprint D8_N (SOIC, 8-Leads, Body 4.9x3.9mm, Pitch 1.27mm, IPC Medium Density)
footprint D8_L (SOIC, 8-Leads, Body 4.9x3.9mm, Pitch 1.27mm, IPC High Density)
footprint D8_M (SOIC, 8-Leads, Body 4.9x3.9mm, Pitch 1.27mm, IPC Low Density)
pins: 1 SWC (oc), 2 SWE (oe), 3 TCAP, 4 GND (power), 5 COMP- (in), 6 VCC (power), 7 IPK (in), 8 DRC (oc)

## MC34063ADRE4
designator U?
Buck Inverting Buck-Boost Regulator with 3 to 40 V Input and 1.55 to 40 V Output, 0 to 70 degC, 8-Pin SOIC (D), Green (RoHS & no Sb/Br); Manufacturer: Texas Instruments; PartNumber: MC34063ADRE4; Duty Cycle(Max)(%): 90; Iout(Max)(A): 0.75; Iq(Typ)(mA): 4; Rating: Catalog; Regulated Outputs(#): 1; SubFamily: Inverting Regulator; Switch Current Limit(Typ)(A): 1.5; Topology: Buck, Inverting Buck-Boost; Vin(Max)(V): 40; Vin(Min)(V): 3; Vout(Min)(V): 1.55; DatasheetVersion: SLLS636M; PackageVersion: revM, Jun-2011; PackageReference: D8; PackageDescription: 8-Pin Plastic Small Outline Integrated Circuit, 4.9 x 3.9 mm, Pitch 1.27 mm Pitch; Supplier 1: Digi-Key; Supplier Part Number 1: MC34063ADRE4-ND; Eco-Plan: Green (RoHS & no Sb/Br); Vout(Max)(V): 40; Mounting Technology: Surface Mount; Code_JEDEC: MS-012AA; ComponentLink1Description: Datasheet; ComponentLink1URL: http://www.ti.com/general/docs/lit/getliterature.tsp?genericPartNumber=MC34063A&fileType=pdf; ComponentLink2Description: Package Specification; ComponentLink2URL: http://www.ti.com/litv/pdf/msoi002j; ComponentLink3Description: URL Link1; ComponentLink3URL: Samples URL:http://www.ti.com/product/mc34063a#samples
footprint D8_N (SOIC, 8-Leads, Body 4.9x3.9mm, Pitch 1.27mm, IPC Medium Density)
footprint D8_L (SOIC, 8-Leads, Body 4.9x3.9mm, Pitch 1.27mm, IPC High Density)
footprint D8_M (SOIC, 8-Leads, Body 4.9x3.9mm, Pitch 1.27mm, IPC Low Density)
pins: 1 SWC (oc), 2 SWE (oe), 3 TCAP, 4 GND (power), 5 COMP- (in), 6 VCC (power), 7 IPK (in), 8 DRC (oc)

## MC34063ADRG4
designator U?
Buck Inverting Buck-Boost Regulator with 3 to 40 V Input and 1.55 to 40 V Output, 0 to 70 degC, 8-Pin SOIC (D), Green (RoHS & no Sb/Br); Manufacturer: Texas Instruments; PartNumber: MC34063ADRG4; Duty Cycle(Max)(%): 90; Iout(Max)(A): 0.75; Iq(Typ)(mA): 4; Rating: Catalog; Regulated Outputs(#): 1; SubFamily: Inverting Regulator; Switch Current Limit(Typ)(A): 1.5; Topology: Buck, Inverting Buck-Boost; Vin(Max)(V): 40; Vin(Min)(V): 3; Vout(Min)(V): 1.55; DatasheetVersion: SLLS636M; PackageVersion: revM, Jun-2011; PackageReference: D8; PackageDescription: 8-Pin Plastic Small Outline Integrated Circuit, 4.9 x 3.9 mm, Pitch 1.27 mm Pitch; Supplier 1: Digi-Key; Supplier Part Number 1: MC34063ADRG4-ND; Eco-Plan: Green (RoHS & no Sb/Br); Vout(Max)(V): 40; Mounting Technology: Surface Mount; Code_JEDEC: MS-012AA; ComponentLink1Description: Datasheet; ComponentLink1URL: http://www.ti.com/general/docs/lit/getliterature.tsp?genericPartNumber=MC34063A&fileType=pdf; ComponentLink2Description: Package Specification; ComponentLink2URL: http://www.ti.com/litv/pdf/msoi002j; ComponentLink3Description: URL Link1; ComponentLink3URL: Samples URL:http://www.ti.com/product/mc34063a#samples
footprint D8_N (SOIC, 8-Leads, Body 4.9x3.9mm, Pitch 1.27mm, IPC Medium Density)
footprint D8_L (SOIC, 8-Leads, Body 4.9x3.9mm, Pitch 1.27mm, IPC High Density)
footprint D8_M (SOIC, 8-Leads, Body 4.9x3.9mm, Pitch 1.27mm, IPC Low Density)
pins: 1 SWC (oc), 2 SWE (oe), 3 TCAP, 4 GND (power), 5 COMP- (in), 6 VCC (power), 7 IPK (in), 8 DRC (oc)

## MC34063ADRJR
designator U?
Buck Inverting Buck-Boost Regulator with 3 to 40 V Input and 1.55 to 40 V Output, 0 to 70 degC, 8-Pin SON (DRJ), Green (RoHS & no Sb/Br); Manufacturer: Texas Instruments; PartNumber: MC34063ADRJR; Duty Cycle(Max)(%): 90; Iout(Max)(A): 0.75; Iq(Typ)(mA): 4; Rating: Catalog; Regulated Outputs(#): 1; SubFamily: Inverting Regulator; Switch Current Limit(Typ)(A): 1.5; Topology: Buck, Inverting Buck-Boost; Vin(Max)(V): 40; Vin(Min)(V): 3; Vout(Min)(V): 1.55; DatasheetVersion: SLLS636M; PackageVersion: revC, Dec-2010; PackageReference: DRJ8-3000X2200TP; PackageDescription: 8-Pin Plastic Small Outline No-Lead, 4 x 4 x 0.8 mm Body, 0.8 mm Pitch, Exposed Pad; Supplier 1: Digi-Key; Supplier Part Number 1: 296-21745-2-ND; Eco-Plan: Green (RoHS & no Sb/Br); Vout(Max)(V): 40; Mounting Technology: Surface Mount; ComponentLink1Description: Datasheet; ComponentLink1URL: http://www.ti.com/general/docs/lit/getliterature.tsp?genericPartNumber=MC34063A&fileType=pdf; ComponentLink2Description: Package Specification; ComponentLink2URL: http://www.ti.com/litv/pdf/mpds153b; ComponentLink3Description: URL Link1; ComponentLink3URL: Samples URL:http://www.ti.com/product/mc34063a#samples
footprint DRJ8-3000X2200TP (SON, 8-Leads, Body 4x4mm, Pitch 0.8mm, Thermal Pad 3x2.2mm, TI Recommended)
pins: 1 SWC (oc), 2 SWE (oe), 3 TCAP, 4 GND (power), 5 COMP- (in), 6 VCC (power), 7 IPK (in), 8 DRC (oc), 9 EP (power)

## MC34063ADRJRG4
designator U?
Buck Inverting Buck-Boost Regulator with 3 to 40 V Input and 1.55 to 40 V Output, 0 to 70 degC, 8-Pin SON (DRJ), Green (RoHS & no Sb/Br); Manufacturer: Texas Instruments; PartNumber: MC34063ADRJRG4; Duty Cycle(Max)(%): 90; Iout(Max)(A): 0.75; Iq(Typ)(mA): 4; Rating: Catalog; Regulated Outputs(#): 1; SubFamily: Inverting Regulator; Switch Current Limit(Typ)(A): 1.5; Topology: Buck, Inverting Buck-Boost; Vin(Max)(V): 40; Vin(Min)(V): 3; Vout(Min)(V): 1.55; DatasheetVersion: SLLS636M; PackageVersion: revC, Dec-2010; PackageReference: DRJ8-3000X2200TP; PackageDescription: 8-Pin Plastic Small Outline No-Lead, 4 x 4 x 0.8 mm Body, 0.8 mm Pitch, Exposed Pad; Supplier 1: Digi-Key; Supplier Part Number 1: MC34063ADRJRG4-ND; Eco-Plan: Green (RoHS & no Sb/Br); Vout(Max)(V): 40; Mounting Technology: Surface Mount; ComponentLink1Description: Datasheet; ComponentLink1URL: http://www.ti.com/general/docs/lit/getliterature.tsp?genericPartNumber=MC34063A&fileType=pdf; ComponentLink2Description: Package Specification; ComponentLink2URL: http://www.ti.com/litv/pdf/mpds153b; ComponentLink3Description: URL Link1; ComponentLink3URL: Samples URL:http://www.ti.com/product/mc34063a#samples
footprint DRJ8-3000X2200TP (SON, 8-Leads, Body 4x4mm, Pitch 0.8mm, Thermal Pad 3x2.2mm, TI Recommended)
pins: 1 SWC (oc), 2 SWE (oe), 3 TCAP, 4 GND (power), 5 COMP- (in), 6 VCC (power), 7 IPK (in), 8 DRC (oc), 9 EP (power)

## MC34063AP
designator U?
Buck Inverting Buck-Boost Regulator with 3 to 40 V Input and 1.55 to 40 V Output, 0 to 70 degC, 8-Pin PDIP (P), Pb-Free (RoHS); Manufacturer: Texas Instruments; PartNumber: MC34063AP; Duty Cycle(Max)(%): 90; Iout(Max)(A): 0.75; Iq(Typ)(mA): 4; Rating: Catalog; Regulated Outputs(#): 1; SubFamily: Inverting Regulator; Switch Current Limit(Typ)(A): 1.5; Topology: Buck, Inverting Buck-Boost; Vin(Max)(V): 40; Vin(Min)(V): 3; Vout(Min)(V): 1.55; DatasheetVersion: SLLS636M; PackageVersion: revE, Apr-2010; PackageReference: P8; PackageDescription: 8-Pin Plastic Dual-In-Line Package, Row Spacing 7.62 mm, Pitch 2.54 mm; Supplier 1: Digi-Key; Supplier Part Number 1: 296-17766-5-ND; Eco-Plan: Pb-Free (RoHS); Vout(Max)(V): 40; Mounting Technology: Through Hole; Code_JEDEC: MS-001-BA; ComponentLink1Description: Datasheet; ComponentLink1URL: http://www.ti.com/general/docs/lit/getliterature.tsp?genericPartNumber=MC34063A&fileType=pdf; ComponentLink2Description: Package Specification; ComponentLink2URL: http://www.ti.com/lit/ml/mpdi001b/mpdi001b.pdf; ComponentLink3Description: URL Link1; ComponentLink3URL: Samples URL:http://www.ti.com/product/mc34063a#samples
footprint P8 (DIP, 8-Leads, Row Spacing 7.62mm, Pitch 2.54mm, Body 9.6x6.4mm)
pins: 1 SWC (oc), 2 SWE (oe), 3 TCAP, 4 GND (power), 5 COMP- (in), 6 VCC (power), 7 IPK (in), 8 DRC (oc)

## MC34063APE4
designator U?
Buck Inverting Buck-Boost Regulator with 3 to 40 V Input and 1.55 to 40 V Output, 0 to 70 degC, 8-Pin PDIP (P), Pb-Free (RoHS); Manufacturer: Texas Instruments; PartNumber: MC34063APE4; Duty Cycle(Max)(%): 90; Iout(Max)(A): 0.75; Iq(Typ)(mA): 4; Rating: Catalog; Regulated Outputs(#): 1; SubFamily: Inverting Regulator; Switch Current Limit(Typ)(A): 1.5; Topology: Buck, Inverting Buck-Boost; Vin(Max)(V): 40; Vin(Min)(V): 3; Vout(Min)(V): 1.55; DatasheetVersion: SLLS636M; PackageVersion: revE, Apr-2010; PackageReference: P8; PackageDescription: 8-Pin Plastic Dual-In-Line Package, Row Spacing 7.62 mm, Pitch 2.54 mm; Supplier 1: Digi-Key; Supplier Part Number 1: MC34063APE4-ND; Eco-Plan: Pb-Free (RoHS); Vout(Max)(V): 40; Mounting Technology: Through Hole; Code_JEDEC: MS-001-BA; ComponentLink1Description: Datasheet; ComponentLink1URL: http://www.ti.com/general/docs/lit/getliterature.tsp?genericPartNumber=MC34063A&fileType=pdf; ComponentLink2Description: Package Specification; ComponentLink2URL: http://www.ti.com/lit/ml/mpdi001b/mpdi001b.pdf; ComponentLink3Description: URL Link1; ComponentLink3URL: Samples URL:http://www.ti.com/product/tps54611#samples
footprint P8 (DIP, 8-Leads, Row Spacing 7.62mm, Pitch 2.54mm, Body 9.6x6.4mm)
pins: 1 SWC (oc), 2 SWE (oe), 3 TCAP, 4 GND (power), 5 COMP- (in), 6 VCC (power), 7 IPK (in), 8 DRC (oc)

## TL2575-05IKTTR
designator U?
Buck Step Down Regulator with 4.75 to 40 V Input and 5 V Output, -40 to 125 degC, 5-Pin DDPAK/TO-263 (KTT), Green (RoHS & no Sb/Br); Manufacturer: Texas Instruments; PartNumber: TL2575-05IKTTR; Duty Cycle(Max)(%): 98; Iout(Max)(A): 1; Iq(Typ)(mA): 5; Rating: Catalog; SubFamily: Step-Down Regulator; Switch Current Limit(Typ)(A): 2.8; Vin(Max)(V): 40; Vin(Min)(V): 4.75; DatasheetVersion: SLVS638B; PackageVersion: revF, Jul-2011; PackageReference: KTT5; PackageDescription: 6-Pin Plastic Fange-Mount Package 1.7 mm Pitch, 15.2 mm Lead Span; Supplier 1: Digi-Key; Supplier Part Number 1: 296-21824-2-ND; Eco-Plan: Green (RoHS & no Sb/Br); Preset Vout(V): 5; Regulated Outputs(#): 1; Topology: Buck; Vout(Max)(V): 5; Vout(Min)(V): 5; Mounting Technology: Surface Mount; Code_JEDEC: TO-263-AB; ComponentLink1Description: Datasheet; ComponentLink1URL: http://www.ti.com/general/docs/lit/getliterature.tsp?genericPartNumber=TL2575-05&fileType=pdf; ComponentLink2Description: Package Specification; ComponentLink2URL: http://www.ti.com/litv/pdf/mpsf007e; ComponentLink3Description: URL Link1; ComponentLink3URL: Samples URL:http://www.ti.com/product/tl2575-05#samples
footprint KTT5_N (D2-PAK, 6-Leads, Body 8.9x10.2mm, Pitch 1.7mm, Lead Span 15.2mm, IPC Medium Density)
footprint KTT5_L (D2-PAK, 6-Leads, Body 8.9x10.2mm, Pitch 1.7mm, Lead Span 15.2mm, IPC High Density)
footprint KTT5_M (D2-PAK, 6-Leads, Body 8.9x10.2mm, Pitch 1.7mm, Lead Span 15.2mm, IPC Low Density)
pins: 1 VIN (power), 2 OUT (power), 3 GND (power), 4 FB (in), 5 ~{ON}/OFF (in), 6 GND (power)

## TL2575-05IKTTRG3
designator U?
Buck Step Down Regulator with 4.75 to 40 V Input and 5 V Output, -40 to 125 degC, 5-Pin DDPAK/TO-263 (KTT), Green (RoHS & no Sb/Br); Manufacturer: Texas Instruments; PartNumber: TL2575-05IKTTRG3; Duty Cycle(Max)(%): 98; Iout(Max)(A): 1; Iq(Typ)(mA): 5; Rating: Catalog; SubFamily: Step-Down Regulator; Switch Current Limit(Typ)(A): 2.8; Vin(Max)(V): 40; Vin(Min)(V): 4.75; DatasheetVersion: SLVS638B; PackageVersion: revF, Jul-2011; PackageReference: KTT5; PackageDescription: 6-Pin Plastic Fange-Mount Package 1.7 mm Pitch, 15.2 mm Lead Span; Supplier 1: Digi-Key; Supplier Part Number 1: TL2575-05IKTTRG3-ND; Eco-Plan: Green (RoHS & no Sb/Br); Preset Vout(V): 5; Regulated Outputs(#): 1; Topology: Buck; Vout(Max)(V): 5; Vout(Min)(V): 5; Mounting Technology: Surface Mount; Code_JEDEC: TO-263-AB; ComponentLink1Description: Datasheet; ComponentLink1URL: http://www.ti.com/general/docs/lit/getliterature.tsp?genericPartNumber=TL2575-05&fileType=pdf; ComponentLink2Description: Package Specification; ComponentLink2URL: http://www.ti.com/litv/pdf/mpsf007e; ComponentLink3Description: URL Link1; ComponentLink3URL: Samples URL:http://www.ti.com/product/tl2575-05#samples
footprint KTT5_N (D2-PAK, 6-Leads, Body 8.9x10.2mm, Pitch 1.7mm, Lead Span 15.2mm, IPC Medium Density)
footprint KTT5_L (D2-PAK, 6-Leads, Body 8.9x10.2mm, Pitch 1.7mm, Lead Span 15.2mm, IPC High Density)
footprint KTT5_M (D2-PAK, 6-Leads, Body 8.9x10.2mm, Pitch 1.7mm, Lead Span 15.2mm, IPC Low Density)
pins: 1 VIN (power), 2 OUT (power), 3 GND (power), 4 FB (in), 5 ~{ON}/OFF (in), 6 GND (power)

## TL2575-05IN
designator U?
Buck Step Down Regulator with 4.75 to 40 V Input and 5 V Output, -40 to 125 degC, 16-Pin PDIP (N), Pb-Free (RoHS); Manufacturer: Texas Instruments; PartNumber: TL2575-05IN; Duty Cycle(Max)(%): 98; Iout(Max)(A): 1; Iq(Typ)(mA): 5; Rating: Catalog; SubFamily: Step-Down Regulator; Switch Current Limit(Typ)(A): 2.8; Vin(Max)(V): 40; Vin(Min)(V): 4.75; DatasheetVersion: SLVS638B; PackageVersion: revE, Dec-2002; PackageReference: N16; PackageDescription: 16-Pin Plastic Dual-In-Line Package, Row Spacing 7.62 mm, Pitch 2.54 mm; Supplier 1: Digi-Key; Supplier Part Number 1: 296-21094-5-ND; Eco-Plan: Pb-Free (RoHS); Preset Vout(V): 5; Regulated Outputs(#): 1; Topology: Buck; Vout(Max)(V): 5; Vout(Min)(V): 5; Mounting Technology: Through Hole; Code_JEDEC: MS-001*; ComponentLink1Description: Datasheet; ComponentLink1URL: http://www.ti.com/general/docs/lit/getliterature.tsp?genericPartNumber=TL2575-05&fileType=pdf; ComponentLink2Description: Package Specification; ComponentLink2URL: http://www.ti.com/litv/pdf/mpdi002c; ComponentLink3Description: URL Link1; ComponentLink3URL: Samples URL:http://www.ti.com/product/tl2575-05#samples
footprint N16 (DIP, 16-Leads, Row Spacing 7.62mm, Pitch 2.54mm, Body 19.3x6.4mm)
part A pins: 3 OUT (power), 5 GND (power), 7 FB (in), 9 ~{ON}/OFF (in), 12 GND (power), 13 GND (power), 16 VIN (power)
part B pins: 1 NC, 2 NC, 4 NC, 6 NC, 8 NC, 10 NC, 11 NC, 14 NC, 15 NC

## TL2575-05INE4
designator U?
Buck Step Down Regulator with 4.75 to 40 V Input and 5 V Output, -40 to 125 degC, 16-Pin PDIP (N), Pb-Free (RoHS); Manufacturer: Texas Instruments; PartNumber: TL2575-05INE4; Duty Cycle(Max)(%): 98; Iout(Max)(A): 1; Iq(Typ)(mA): 5; Rating: Catalog; SubFamily: Step-Down Regulator; Switch Current Limit(Typ)(A): 2.8; Vin(Max)(V): 40; Vin(Min)(V): 4.75; DatasheetVersion: SLVS638B; PackageVersion: revE, Dec-2002; PackageReference: N16; PackageDescription: 16-Pin Plastic Dual-In-Line Package, Row Spacing 7.62 mm, Pitch 2.54 mm; Supplier 1: Digi-Key; Supplier Part Number 1: TL2575-05INE4-ND; Eco-Plan: Pb-Free (RoHS); Preset Vout(V): 5; Regulated Outputs(#): 1; Topology: Buck; Vout(Max)(V): 5; Vout(Min)(V): 5; Mounting Technology: Through Hole; Code_JEDEC: MS-001*; ComponentLink1Description: Datasheet; ComponentLink1URL: http://www.ti.com/general/docs/lit/getliterature.tsp?genericPartNumber=TL2575-05&fileType=pdf; ComponentLink2Description: Package Specification; ComponentLink2URL: http://www.ti.com/litv/pdf/mpdi002c; ComponentLink3Description: URL Link1; ComponentLink3URL: Samples URL:http://www.ti.com/product/tps54611#samples
footprint N16 (DIP, 16-Leads, Row Spacing 7.62mm, Pitch 2.54mm, Body 19.3x6.4mm)
part A pins: 3 OUT (power), 5 GND (power), 7 FB (in), 9 ~{ON}/OFF (in), 12 GND (power), 13 GND (power), 16 VIN (power)
part B pins: 1 NC, 2 NC, 4 NC, 6 NC, 8 NC, 10 NC, 11 NC, 14 NC, 15 NC

## TL2575-12IKTTR
designator U?
Buck Step Down Regulator with 4.75 to 40 V Input and 12 V Output, -40 to 125 degC, 5-Pin DDPAK/TO-263 (KTT), Green (RoHS & no Sb/Br); Manufacturer: Texas Instruments; PartNumber: TL2575-12IKTTR; Duty Cycle(Max)(%): 98; Iout(Max)(A): 1; Iq(Typ)(mA): 5; Preset Vout(V): 12; Rating: Catalog; SubFamily: Step-Down Regulator; Switch Current Limit(Typ)(A): 2.8; Vin(Max)(V): 40; Vin(Min)(V): 4.75; DatasheetVersion: SLVS638B; PackageVersion: revF, Jul-2011; PackageReference: KTT5; PackageDescription: 6-Pin Plastic Fange-Mount Package 1.7 mm Pitch, 15.2 mm Lead Span; Supplier 1: Digi-Key; Supplier Part Number 1: 296-21495-2-ND; Eco-Plan: Green (RoHS & no Sb/Br); Regulated Outputs(#): 1; Topology: Buck; Vout(Max)(V): 12; Vout(Min)(V): 12; Mounting Technology: Surface Mount; Code_JEDEC: TO-263-AB; ComponentLink1Description: Datasheet; ComponentLink1URL: http://www.ti.com/general/docs/lit/getliterature.tsp?genericPartNumber=TL2575-12&fileType=pdf; ComponentLink2Description: Package Specification; ComponentLink2URL: http://www.ti.com/litv/pdf/mpsf007e; ComponentLink3Description: URL Link1; ComponentLink3URL: Samples URL:http://www.ti.com/product/tl2575-12#samples
footprint KTT5_N (D2-PAK, 6-Leads, Body 8.9x10.2mm, Pitch 1.7mm, Lead Span 15.2mm, IPC Medium Density)
footprint KTT5_L (D2-PAK, 6-Leads, Body 8.9x10.2mm, Pitch 1.7mm, Lead Span 15.2mm, IPC High Density)
footprint KTT5_M (D2-PAK, 6-Leads, Body 8.9x10.2mm, Pitch 1.7mm, Lead Span 15.2mm, IPC Low Density)
pins: 1 VIN (power), 2 OUT (power), 3 GND (power), 4 FB (in), 5 ~{ON}/OFF (in), 6 GND (power)

## TL2575-12IKTTRG3
designator U?
Buck Step Down Regulator with 4.75 to 40 V Input and 12 V Output, -40 to 125 degC, 5-Pin DDPAK/TO-263 (KTT), Green (RoHS & no Sb/Br); Manufacturer: Texas Instruments; PartNumber: TL2575-12IKTTRG3; Duty Cycle(Max)(%): 98; Iout(Max)(A): 1; Iq(Typ)(mA): 5; Preset Vout(V): 12; Rating: Catalog; SubFamily: Step-Down Regulator; Switch Current Limit(Typ)(A): 2.8; Vin(Max)(V): 40; Vin(Min)(V): 4.75; DatasheetVersion: SLVS638B; PackageVersion: revF, Jul-2011; PackageReference: KTT5; PackageDescription: 6-Pin Plastic Fange-Mount Package 1.7 mm Pitch, 15.2 mm Lead Span; Supplier 1: Digi-Key; Supplier Part Number 1: TL2575-12IKTTRG3-ND; Eco-Plan: Green (RoHS & no Sb/Br); Regulated Outputs(#): 1; Topology: Buck; Vout(Max)(V): 12; Vout(Min)(V): 12; Mounting Technology: Surface Mount; Code_JEDEC: TO-263-AB; ComponentLink1Description: Datasheet; ComponentLink1URL: http://www.ti.com/general/docs/lit/getliterature.tsp?genericPartNumber=TL2575-12&fileType=pdf; ComponentLink2Description: Package Specification; ComponentLink2URL: http://www.ti.com/litv/pdf/mpsf007e; ComponentLink3Description: URL Link1; ComponentLink3URL: Samples URL:http://www.ti.com/product/tl2575-12#samples
footprint KTT5_N (D2-PAK, 6-Leads, Body 8.9x10.2mm, Pitch 1.7mm, Lead Span 15.2mm, IPC Medium Density)
footprint KTT5_L (D2-PAK, 6-Leads, Body 8.9x10.2mm, Pitch 1.7mm, Lead Span 15.2mm, IPC High Density)
footprint KTT5_M (D2-PAK, 6-Leads, Body 8.9x10.2mm, Pitch 1.7mm, Lead Span 15.2mm, IPC Low Density)
pins: 1 VIN (power), 2 OUT (power), 3 GND (power), 4 FB (in), 5 ~{ON}/OFF (in), 6 GND (power)

## TL2575-12IN
designator U?
Buck Step Down Regulator with 4.75 to 40 V Input and 12 V Output, -40 to 125 degC, 16-Pin PDIP (N), Pb-Free (RoHS); Manufacturer: Texas Instruments; PartNumber: TL2575-12IN; Duty Cycle(Max)(%): 98; Iout(Max)(A): 1; Iq(Typ)(mA): 5; Preset Vout(V): 12; Rating: Catalog; SubFamily: Step-Down Regulator; Switch Current Limit(Typ)(A): 2.8; Vin(Max)(V): 40; Vin(Min)(V): 4.75; DatasheetVersion: SLVS638B; PackageVersion: revE, Dec-2002; PackageReference: N16; PackageDescription: 16-Pin Plastic Dual-In-Line Package, Row Spacing 7.62 mm, Pitch 2.54 mm; Supplier 1: Digi-Key; Supplier Part Number 1: 296-21826-5-ND; Eco-Plan: Pb-Free (RoHS); Regulated Outputs(#): 1; Topology: Buck; Vout(Max)(V): 12; Vout(Min)(V): 12; Mounting Technology: Through Hole; Code_JEDEC: MS-001*; ComponentLink1Description: Datasheet; ComponentLink1URL: http://www.ti.com/general/docs/lit/getliterature.tsp?genericPartNumber=TL2575-12&fileType=pdf; ComponentLink2Description: Package Specification; ComponentLink2URL: http://www.ti.com/litv/pdf/mpdi002c; ComponentLink3Description: URL Link1; ComponentLink3URL: Samples URL:http://www.ti.com/product/tl2575-12#samples
footprint N16 (DIP, 16-Leads, Row Spacing 7.62mm, Pitch 2.54mm, Body 19.3x6.4mm)
part A pins: 3 OUT (power), 5 GND (power), 7 FB, 9 ~{ON}/OFF (in), 12 GND (power), 13 GND (power), 16 VIN (power)
part B pins: 1 NC, 2 NC, 4 NC, 6 NC, 8 NC, 10 NC, 11 NC, 14 NC, 15 NC